# Altium footprint library DB.PcbLib: 24 footprints (part 1 of 2)
Each footprint in its own frame and in the unit in brackets; x right, y up, seen from the top. Pads: shape width x height; smd on the part's side, far side on the other; paste and mask are expansions set on the pad; w line width, h text height; cw(c..) or ccw(c..) is an arc to the next point about the centre after c.
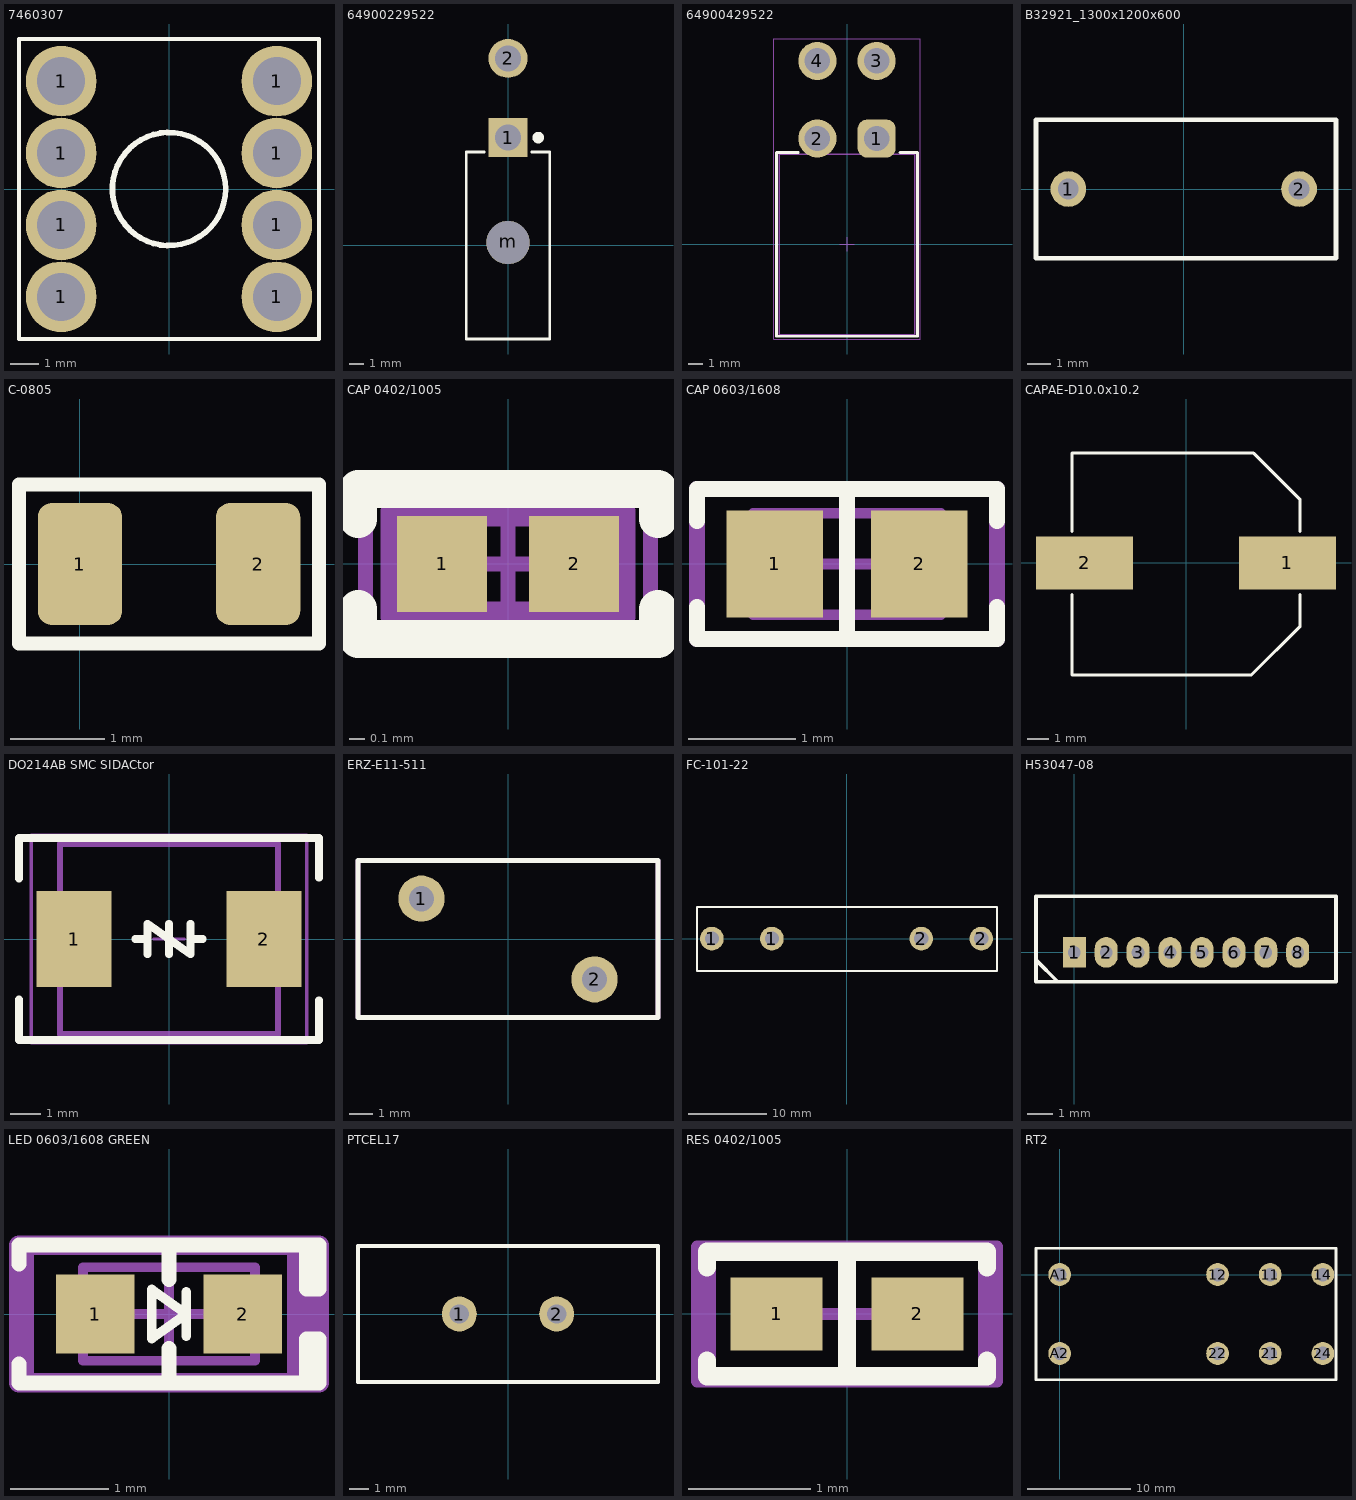
[diagram p0: the footprints below, top view; thin cyan lines are the x and y axes]

## 7460307 [mm]
pads (8):
  round 2.5 hole 1.7: 1(-3.81,-3.81) 1(-3.81,-1.27) 1(-3.81,1.27) 1(-3.81,3.81) 1(3.81,-3.81) 1(3.81,-1.27) 1(3.81,1.27) 1(3.81,3.81)
Top Overlay:
  circle w0.2: c0,0 r2
  lines w0.15: -5.3,-5.3 5.3,-5.3 5.3,5.3 -5.3,5.3 -5.3,-5.3
3D body "7460307_Download_STP_7460307_rev1.stp": height 7, standoff -3.5, extent -4.5,-4.5 4.5,4.5

## 64900229522 [mm] "4.20mm Male Dual Row Angled Header, 2p"
height 10
pads (3):
  rect 2.7x2.7 hole 1.8: 1(0,7.5)
  round 2.7 hole 1.8: 2(0,13)
  round 3 hole 3 unplated mask+0.05: m(0,0.2)
Top Overlay:
  circle w0.4: c2.1,7.5 r0.2
  lines w0.2: -1.65,6.5 -2.9,6.5 -2.9,-6.5 2.9,-6.5 2.9,6.5 1.65,6.5
3D body "64900229522.stp": height 11.43, standoff -3.47, extent -2.7,-6.4 3.02,13.57

## 64900429522 [mm] "4.20mm Male Dual Row Angled Header, 4p"
height 10
pads (4):
  rrect50% 2.7x2.7 hole 1.8: 1(2.1,7.5)
  round 2.7 hole 1.8: 2(-2.1,7.5) 3(2.1,13) 4(-2.1,13)
Top Overlay:
  lines w0.2: -3.45,6.5 -5,6.5 -5,-6.5 5,-6.5 5,6.5 3.75,6.5
Top Component Outline:
  lines w0.1: -4.8,-6.4 4.8,-6.4 4.8,6.4 -4.8,6.4 -4.8,-6.4
Top Designator:
  text ".Designator" at -7.498,-0.5 h1.5
Top Courtyard:
  lines w0.05: -0.5,0 0.5,0 ; 0,-0.5 0,0.5 ; -5.2,-6.7 -5.2,14.55 5.2,14.55 5.2,-6.7 -5.2,-6.7
3D body "64900429522.stp": height 11.43, standoff -3.47, extent -4.8,-6.4 5.12,13.57

## B32921_1300x1200x600 [mm] "EPCOS"
height 12
pads (2):
  round 1.55 hole 0.9: 1(-5,0) 2(5,0)
Top Overlay:
  lines w0.203: -6.4,-3 -6.4,3 6.6,3 6.6,-3 -6.4,-3
3D body "a973c64_2pins.step": height 11.05, standoff -5.95, extent -6.5,-3 6.5,3

## C-0805 [mm]
pads (2):
  rrect33% 0.9x1.3 smd: 1(0,0) 2(1.9,0)
Top Overlay:
  lines w0.15: -0.65,-0.85 2.55,-0.85 2.55,0.85 -0.65,0.85 -0.65,0.1 -0.65,-0.85
3D body "CAPC-0805-T0.95-BN.stp": height 0.95, standoff 0, extent -0.075,-0.675 2.025,0.675

## CAP 0402/1005 [mm] "Chip Capacitor, 2-Leads, Body 1.02x0.51mm, IPC Medium Density"
height 0.52
pads (2):
  rect 0.6x0.64 smd: 1(-0.44,0) 2(0.44,0)
Top Overlay:
  lines w0.254: -1,-0.3 -1,-0.5 1,-0.5 1,-0.3 ; -1,0.3 -1,0.5 1,0.5 1,0.3
Top Assembly:
  lines w0.2: -0.75,-0.35 0.75,-0.35 0.75,0.35 -0.75,0.35 -0.75,-0.35
Top Designator:
  text ".Designator" at -1.219,1.021 h1.4
Top Courtyard:
  lines w0.1: -0.26,0 0.26,0 ; 0,-0.26 0,0.26 ; -0.95,-0.5 -0.95,0.5 0.95,0.5 0.95,-0.5 -0.95,-0.5
3D body "0402 cap.STEP": height 0.52, standoff 0, extent -0.5,-0.262 0.5,0.262

## CAP 0603/1608 [mm] "Chip Capacitor, 2-Leads, Body 1.60x0.80mm, IPC Medium Density"
height 0.89
pads (2):
  rect 0.9x1 smd: 1(-0.675,0) 2(0.675,0)
Top Overlay:
  lines w0.15: -1.4,-0.4 -1.4,-0.7 1.4,-0.7 1.4,-0.4 ; -1.4,0.4 -1.4,0.7 1.4,0.7 1.4,0.4 ; 0,-0.7 0,0.7
Top Assembly:
  lines w0.15: -1.4,-0.7 1.4,-0.7 1.4,0.7 -1.4,0.7 -1.4,-0.7
Top Designator:
  text ".Designator" at -1.094,-0.454 h1.4
Top 3D Body:
  lines w0.1: -0.875,-0.475 -0.875,0.475 0.875,0.475 0.875,-0.475 -0.875,-0.475
Top Courtyard:
  lines w0.05: -1.35,-0.75 -1.35,0.75 1.35,0.75 1.35,-0.75 -1.35,-0.75
  lines w0.1: -0.475,0 0.475,0 ; 0,-0.475 0,0.475
3D body "0603 cap.STEP": height 0.82, standoff 0, extent -0.8,-0.412 0.8,0.412

## CAPAE-D10.0x10.2 [mm]
pads (2):
  rect 4.6x2.5 smd: 1(4.8,0) 2(-4.8,0)
Top Overlay:
  lines w0.15: -5.4,-1.5 -5.4,-5.3 3.1,-5.3 5.4,-3 5.4,-1.5 ; -5.4,1.5 -5.4,5.2 3.2,5.2 5.4,3 5.4,1.5
3D body "CAPAE-D10.0x10.2.stp": height 10.5, standoff 0, extent -6,-5.3 6,5.2

## DO214AB SMC SIDACtor [mm] "SIDACtor, Leads, Body 6.85x5.90mm, IPC Medium Density"
height 2.62
pads (2):
  rect 2.45x3.15 smd: 1(-3.1,0) 2(3.1,0)
Top Overlay:
  lines w0.25: -0.7,0.5 0.7,-0.5
  lines w0.254: -4.9,-1.975 -4.9,-3.3 4.9,-3.3 4.9,-2 ; -4.9,1.975 -4.9,3.3 4.9,3.3 4.9,2 ; -1.1,0 -0.8,0 ; -0.7,-0.5 -0.7,0.5 ; 0,-0.5 0,0.5 ; 0.7,-0.5 0.7,0.5 ; 0.8,0 1.1,0
Top Assembly:
  lines w0.2: -3.555,-3.11 3.555,-3.11 3.555,3.11 -3.555,3.11 -3.555,-3.11
Top Designator:
  text ".Designator" at -0.819,-0.379 h1.4
Top Courtyard:
  lines w0.1: -0.5,0 0.5,0 ; 0,-0.5 0,0.5 ; -4.5,-3.4 4.5,-3.4 4.5,3.4 -4.5,3.4 -4.5,-3.4
3D body "SMC.STEP": height 2.6, standoff 0, extent -3.97,-2.952 3.97,2.952

## ERZ-E11-511 [mm]
height 17
pads (2):
  round 2 hole 1.1: 1(-3.75,1.75) 2(3.75,-1.75)
Top Overlay:
  lines w0.2: -6.5,-3.4 -6.5,3.4 6.5,3.4 6.5,-3.4 -6.5,-3.4
Mechanical 1:
  lines w0.2: -6.5,-3.4 6.5,-3.4 6.5,3.4 -6.5,3.4 -6.5,-3.4
3D body: height 17, standoff 0, extent -6.5,-3.4 6.5,3.4

## FC-101-22 [mm] "Pair of Fuse Clips for 6.3mm x 32mm fuses"
height 10.1
pads (4):
  round 3 hole 1.8: 1(-17.107,0) 1(-9.487,0) 2(9.487,0) 2(17.107,0)
Top Overlay:
  lines w0.254: -19,-4.1 19.1,-4.1 19.1,4 -19,4 -19,-4.1
3D body "User Library-Clips LF-102071 with fuse 6_3x32.STEP": height 10.89, standoff -3.6, extent -17.6,-3.95 17.6,3.95

## H53047-08 [mm]
pads (8):
  rect 0.9x1.2 hole 0.5: 1(0,0)
  oval 0.9x1.2 hole 0.5: 2(1.25,0) 3(2.5,0) 4(3.75,0) 5(5,0) 6(6.25,0) 7(7.5,0) 8(8.75,0)
Top Overlay:
  lines w0.15: -1.5,-0.3 -0.65,-1.15 ; -1.5,-1.15 10.25,-1.15 10.25,2.2 -1.5,2.2 -1.5,-1.15
3D body "530470810.stp": height 4.28, standoff -2.22, extent -1.475,-1 10.275,2.2

## LED 0603/1608 GREEN [mm] "Chip Diode, 2-Leads, Body 1.60x0.80mm, IPC Medium Density"
height 0.45
pads (2):
  rect 0.8x0.8 smd: 1(-0.75,0) 2(0.75,0)
Top Overlay:
  lines w0.1: 0.175,-0.225 0.175,0 ; 0.175,0.225 0.175,0 ; 0.175,0 -0.175,-0.25 -0.175,0 -0.175,0.25 0.175,0
  lines w0.15: -1.524,-0.508 -1.524,-0.7 1.5,-0.7 ; -1.524,0.508 -1.524,0.7 1.5,0.7 ; 0,-0.7 0,-0.35 ; 0,0.35 0,0.7 ; 1.397,-0.7 1.524,-0.7 1.524,-0.254 1.397,-0.254 1.397,-0.7 ; 1.397,0.254 1.524,0.254 1.524,0.7 1.397,0.7 1.397,0.254
Top Assembly:
  lines w0.2: 1.297,-0.7 1.297,0.7 ; 1.397,-0.7 1.524,-0.7 1.524,0.7 1.397,0.7 ; 1.5,-0.7 -1.524,-0.7 -1.524,0.7 1.5,0.7
Top Designator:
  text ".Designator" at -1.306,-0.299 h1.4
Top 3D Body:
  lines w0.1: -0.875,-0.475 -0.875,0.475 0.875,0.475 0.875,-0.475 -0.875,-0.475
Top Courtyard:
  lines w0.05: -1.397,-0.75 -1.397,0.75 1.397,0.75 1.397,-0.75 -1.397,-0.75
  lines w0.1: -0.475,0 0.475,0 ; 0,-0.475 0,0.475
3D body "LED 0603 Lens GREEN.STEP": height 0.53, standoff 0.18, extent -0.55,-0.4 0.55,0.4
3D body "LED 0603 Base GREEN.STEP": height 0.28, standoff 0, extent -0.8,-0.4 0.8,0.4

## PTCEL17 [mm] "PTC Thermistors, Inrush Current Limiter and Energy Load-Dump"
height 21
pads (2):
  round 1.8 hole 1: 1(-2.5,0) 2(2.5,0)
Top Overlay:
  lines w0.2: -7.7,-3.5 -7.7,3.5 7.7,3.5 7.7,-3.5 -7.7,-3.5
Top Assembly:
  lines w0.2: -7.7,-3.5 -7.7,3.5 7.7,3.5 7.7,-3.5 -7.7,-3.5
Top Designator:
  text ".Designator" at -1.519,-0.279 h1.4
3D body "PTCEL17R.STEP": height 18.5, standoff -25, extent -7.75,-3.5 7.75,3.5

## RES 0402/1005 [mm] "Chip Resistor, 2-Leads, Body 1.0x0.5mm, IPC Medium Density"
height 0.4
pads (2):
  rect 0.75x0.6 smd: 1(-0.575,0) 2(0.575,0)
Top Overlay:
  lines w0.15: -1.143,-0.381 -1.143,-0.508 1.143,-0.508 1.143,-0.381 ; -1.143,0.381 -1.143,0.508 1.143,0.508 1.143,0.381 ; 0,-0.508 0,0.508
Top Assembly:
  lines w0.15: -1.143,-0.508 1.143,-0.508 1.143,0.508 -1.143,0.508 -1.143,-0.508
Top Designator:
  text ".Designator" at -1.069,0.871 h1.4
Top Courtyard:
  lines w0.1: -0.275,0 0.275,0 ; 0,-0.275 0,0.275 ; -1.225,-0.55 1.225,-0.55 1.225,0.55 -1.225,0.55 -1.225,-0.55
3D body "0402 resistor.STEP": height 0.35, standoff 0, extent -0.5,-0.25 0.5,0.25

## RT2 [mm] "Power PCB Relay RT2 DC and AC"
height 15.7
pads (8):
  round 2.2 hole 1.3: 11(20.32,0) 12(15.24,0) 14(25.4,0) 21(20.32,-7.62) 22(15.24,-7.62) 24(25.4,-7.62) A1(0,0) A2(0,-7.62)
Top Overlay:
  lines w0.254: -2.286,-10.16 26.67,-10.16 26.67,2.54 -2.286,2.54 -2.286,-10.16
3D body "c-6-1393243-3-b-3d.stp": height 15.7, standoff -3.6, extent -2.3,-10.15 26.7,2.55